# Altium footprint library thermostat.PcbLib: 97 footprints (part 6 of 7)
Each footprint in its own frame and in the unit in brackets; x right, y up, seen from the top. Pads: shape width x height; smd on the part's side, far side on the other; paste and mask are expansions set on the pad; w line width, h text height; cw(c..) or ccw(c..) is an arc to the next point about the centre after c.
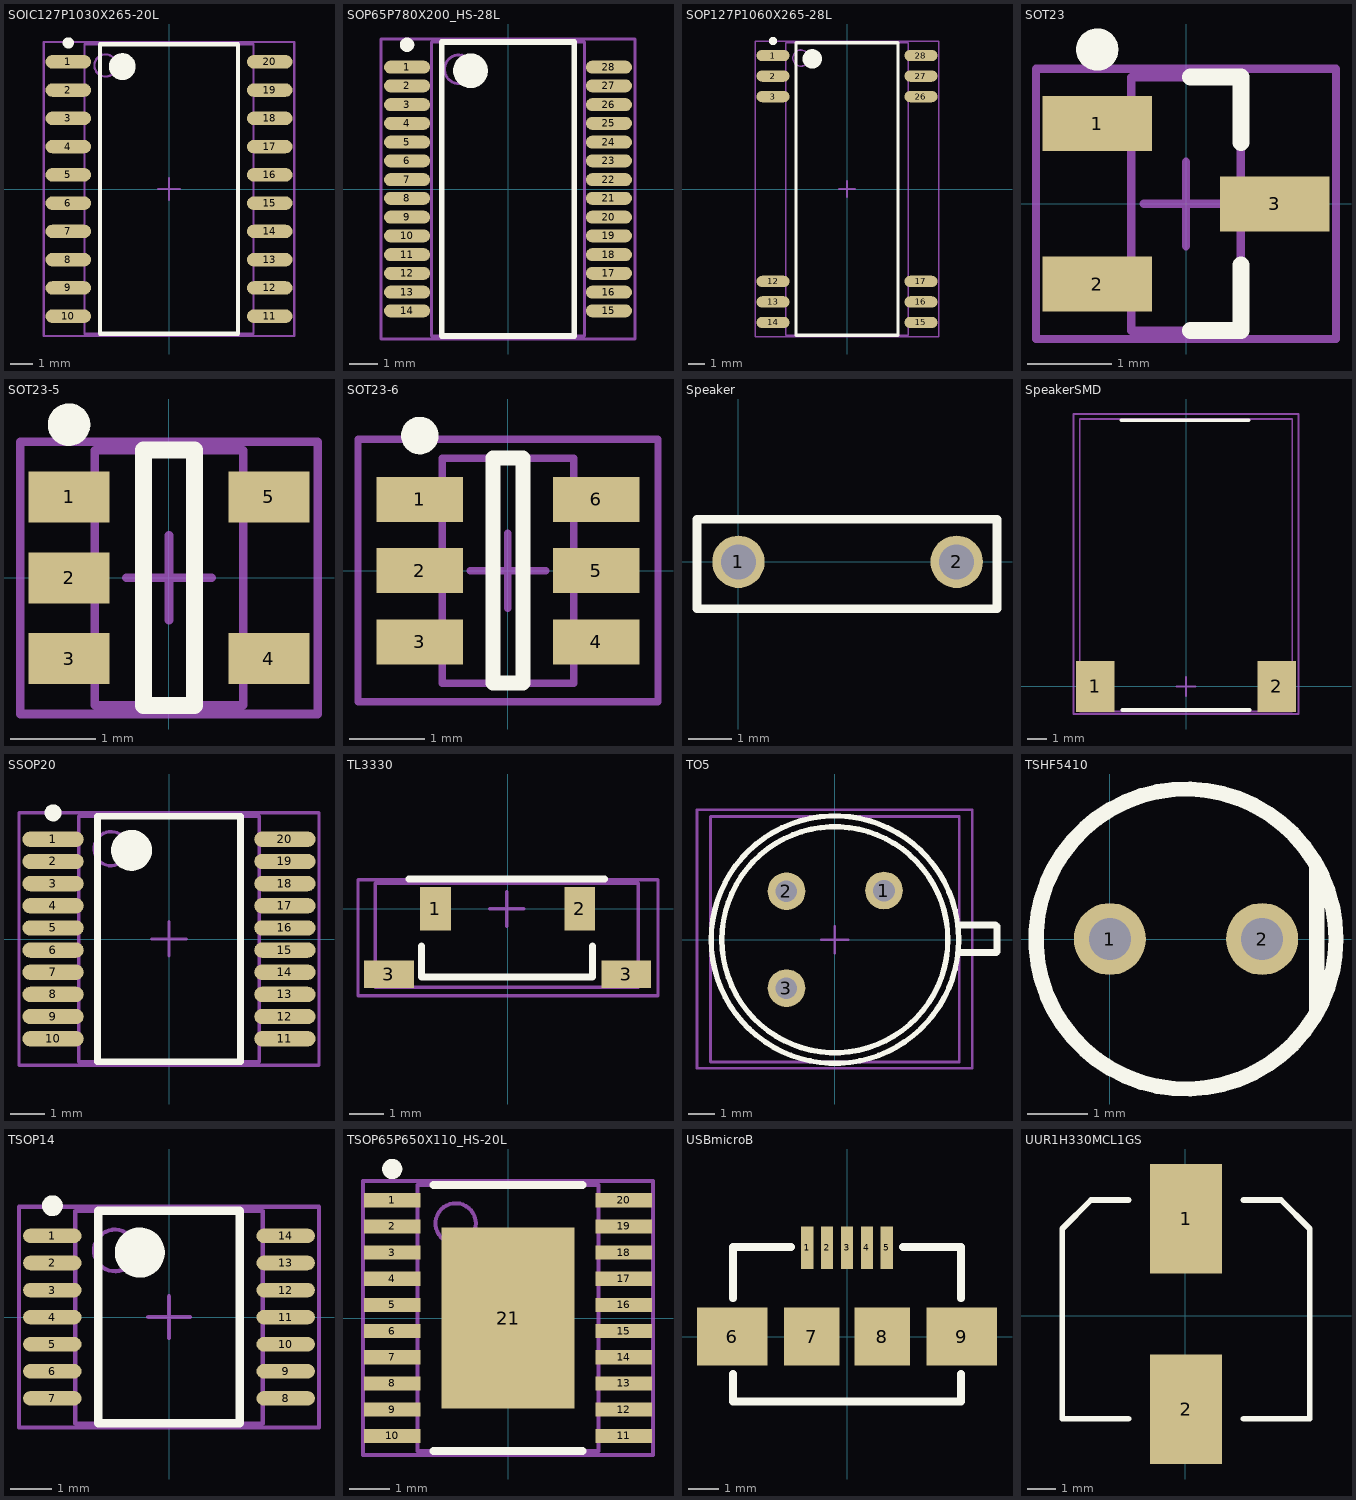
[diagram p5: the footprints below, top view; thin cyan lines are the x and y axes]

## SOIC127P1030X265-20L [mm] "SOIC, 20-Leads, Body 13,0x7,6mm (max), Pitch 1,27mm, IPC High Density"
height 2.65
pads (20):
  oval 2.05x0.6 smd: 1(-4.525,5.715) 2(-4.525,4.445) 3(-4.525,3.175) 4(-4.525,1.905) 5(-4.525,0.635) 6(-4.525,-0.635) 7(-4.525,-1.905) 8(-4.525,-3.175) 9(-4.525,-4.445) 10(-4.525,-5.715) 11(4.525,-5.715) 12(4.525,-4.445) 13(4.525,-3.175) 14(4.525,-1.905) 15(4.525,-0.635) 16(4.525,0.635) 17(4.525,1.905) 18(4.525,3.175) 19(4.525,4.445) 20(4.525,5.715)
Top Overlay:
  circle w0.25: c-4.525,6.565 r0.125
  circle w0.6: c-2.1,5.5 r0.3
  lines w0.2: -3.1,-6.5 -3.1,6.5 3.1,6.5 3.1,-6.5 -3.1,-6.5
Mechanical 13:
  circle w0.1: c-2.85,5.55 r0.5
  lines w0.1: -3.8,-6.5 -3.8,6.5 3.8,6.5 3.8,-6.5 -3.8,-6.5
Mechanical 15:
  lines w0.1: -0.5,0 0.5,0 ; 0,-0.5 0,0.5 ; -5.625,-6.6 -5.625,6.6 5.625,6.6 5.625,-6.6 -5.625,-6.6
3D body: height 2.65, standoff 0.2, extent -3.8,-6.5 3.8,6.5

## SOP65P780X200_HS-28L [mm] "SOP, 28-Leads, Body 10,2x5,3mm (max), Pitch 0,65mm, IPC High Density"
height 2
pads (28):
  oval 1.6x0.45 smd: 1(-3.5,4.225) 2(-3.5,3.575) 3(-3.5,2.925) 4(-3.5,2.275) 5(-3.5,1.625) 6(-3.5,0.975) 7(-3.5,0.325) 8(-3.5,-0.325) 9(-3.5,-0.975) 10(-3.5,-1.625) 11(-3.5,-2.275) 12(-3.5,-2.925) 13(-3.5,-3.575) 14(-3.5,-4.225) 15(3.5,-4.225) 16(3.5,-3.575) 17(3.5,-2.925) 18(3.5,-2.275) 19(3.5,-1.625) 20(3.5,-0.975) 21(3.5,-0.325) 22(3.5,0.325) 23(3.5,0.975) 24(3.5,1.625) 25(3.5,2.275) 26(3.5,2.925) 27(3.5,3.575) 28(3.5,4.225)
Top Overlay:
  circle w0.6: c-1.3,4.1 r0.3
  circle w0.25: c-3.5,5 r0.125
  lines w0.2: -2.3,-5.1 2.3,-5.1 2.3,5.1 -2.3,5.1 -2.3,-5.1
Mechanical 13:
  circle w0.1: c-1.7,4.15 r0.5
  lines w0.1: -2.65,-5.1 2.65,-5.1 2.65,5.1 -2.65,5.1 -2.65,-5.1
Mechanical 15:
  lines w0.1: -4.4,-5.2 4.4,-5.2 4.4,5.2 -4.4,5.2 -4.4,-5.2
3D body: height 2, standoff 0.2, extent -2.65,-5.1 2.65,5.1

## SOP127P1060X265-28L [mm] "SOP, 28-Leads, Body 18,1x7,6mm (max), Pitch 1,27mm, IPC High Density"
height 2.65
pads (12):
  oval 2.05x0.7 smd: 1(-4.575,8.255) 2(-4.575,6.985) 3(-4.575,5.715) 12(-4.575,-5.715) 13(-4.575,-6.985) 14(-4.575,-8.255) 15(4.575,-8.255) 16(4.575,-6.985) 17(4.575,-5.715) 26(4.575,5.715) 27(4.575,6.985) 28(4.575,8.255)
Top Overlay:
  circle w0.6: c-2.15,8.05 r0.3
  circle w0.25: c-4.575,9.155 r0.125
  lines w0.2: -3.15,-9.05 3.15,-9.05 3.15,9.05 -3.15,9.05 -3.15,-9.05
Mechanical 13:
  circle w0.1: c-2.85,8.1 r0.5
  lines w0.1: -3.8,-9.05 3.8,-9.05 3.8,9.05 -3.8,9.05 -3.8,-9.05
Mechanical 15:
  lines w0.1: -0.5,0 0.5,0 ; 0,-0.5 0,0.5 ; -5.675,-9.15 5.675,-9.15 5.675,9.15 -5.675,9.15 -5.675,-9.15
3D body: height 2.65, standoff 0.2, extent -3.8,-9.05 3.8,9.05

## SOT23 [mm]
height 1
pads (3):
  rect 1.3x0.65 smd: 1(-1.05,0.95) 2(-1.05,-0.95) 3(1.05,0)
Top Overlay:
  circle w0.25: c-1.05,1.825 r0.125
  lines w0.2: 0.05,-1.5 0.65,-1.5 0.65,-0.725 ; 0.05,1.5 0.65,1.5 0.65,0.725
Mechanical 13:
  lines w0.1: -0.65,-1.5 -0.65,1.5 0.65,1.5 0.65,-1.5 -0.65,-1.5
Mechanical 15:
  lines w0.1: -0.5,0 0.5,0 ; 0,-0.5 0,0.5 ; -1.775,-1.6 -1.775,1.6 1.775,1.6 1.775,-1.6 -1.775,-1.6
3D body: height 1, standoff 0.15, extent -0.65,-1.5 0.65,1.5

## SOT23-5 [mm] "SOT23, 5-Leads, Body 3,0x3,0mm (max), Pitch 0,95mm, IPC High Density"
height 1.45
pads (5):
  rect 0.95x0.6 smd: 1(-1.175,0.95) 2(-1.175,0) 3(-1.175,-0.95) 4(1.175,-0.95) 5(1.175,0.95)
Top Overlay:
  circle w0.25: c-1.175,1.8 r0.125
  lines w0.2: -0.3,-1.5 -0.3,1.5 0.3,1.5 0.3,-1.5 -0.3,-1.5
Mechanical 13:
  lines w0.1: -0.875,-1.5 0.875,-1.5 0.875,1.5 -0.875,1.5 -0.875,-1.5
Mechanical 15:
  lines w0.1: -0.5,0 0.5,0 ; 0,-0.5 0,0.5 ; -1.75,-1.6 1.75,-1.6 1.75,1.6 -1.75,1.6 -1.75,-1.6
3D body: height 1.45, standoff 0.15, extent -0.875,-1.5 0.875,1.5

## SOT23-6 [mm] "SOT23, 6-Leads, Body 3,0x3,0mm (max), Pitch 0,95mm, IPC Medium Density"
height 1.45
pads (6):
  rect 1.15x0.6 smd: 1(-1.175,0.95) 2(-1.175,0) 3(-1.175,-0.95) 4(1.175,-0.95) 5(1.175,0) 6(1.175,0.95)
Top Overlay:
  circle w0.25: c-1.175,1.8 r0.125
  lines w0.2: -0.2,-1.5 0.2,-1.5 0.2,1.5 -0.2,1.5 -0.2,-1.5
Mechanical 13:
  lines w0.1: -0.875,-1.5 -0.875,1.5 0.875,1.5 0.875,-1.5 -0.875,-1.5
Mechanical 15:
  lines w0.1: -0.5,0 0.5,0 ; 0,-0.5 0,0.5 ; -2,-1.75 -2,1.75 2,1.75 2,-1.75 -2,-1.75
3D body: height 1.45, standoff 0.15, extent -0.875,-1.5 0.875,1.5

## Speaker [mm]
pads (2):
  round 1.2 hole 0.8: 1(0,0) 2(5,0)
Top Overlay:
  lines w0.2: 5.925,0.95 5.925,-1.075 -0.95,-1.075 -0.95,0.975 5.925,0.975

## SpeakerSMD [mm] "Chip Resistor, 2-Leads, Body 11,0x2,6mm, IPC High Density"
height 3.5
pads (2):
  rect 2x2.65 smd: 1(-4.7,0) 2(4.7,0)
Top Overlay:
  lines w0.2: -3.35,13.775 3.25,13.775 ; -3.3,-1.225 3.3,-1.225
Mechanical 13:
  lines w0.1: -5.5,-1.3 -5.5,13.85 5.5,13.85 5.5,-1.3 -5.5,-1.3
Mechanical 15:
  lines w0.1: -0.5,0 0.5,0 ; 0,-0.5 0,0.5 ; -5.825,-1.425 -5.825,14.1 5.825,14.1 5.825,-1.425 -5.825,-1.425
3D body: height 3.5, standoff 0, extent -5.5,-1.3 5.5,13.975

## SSOP20 [mm] "SSOP20, 20-Leads, Body 7,2x5,3mm (max), Pitch 0,65mm, IPC High Density"
height 2
pads (20):
  oval 1.8x0.45 smd: 1(-3.4,2.925) 2(-3.4,2.275) 3(-3.4,1.625) 4(-3.4,0.975) 5(-3.4,0.325) 6(-3.4,-0.325) 7(-3.4,-0.975) 8(-3.4,-1.625) 9(-3.4,-2.275) 10(-3.4,-2.925) 11(3.4,-2.925) 12(3.4,-2.275) 13(3.4,-1.625) 14(3.4,-0.975) 15(3.4,-0.325) 16(3.4,0.325) 17(3.4,0.975) 18(3.4,1.625) 19(3.4,2.275) 20(3.4,2.925)
Top Overlay:
  circle w0.25: c-3.4,3.7 r0.125
  circle w0.6: c-1.1,2.6 r0.3
  lines w0.2: -2.1,-3.6 -2.1,3.6 2.1,3.6 2.1,-3.6 -2.1,-3.6
Mechanical 13:
  circle w0.1: c-1.7,2.65 r0.5
  lines w0.1: -2.65,-3.6 -2.65,3.6 2.65,3.6 2.65,-3.6 -2.65,-3.6
Mechanical 15:
  lines w0.1: -0.5,0 0.5,0 ; 0,-0.5 0,0.5 ; -4.4,-3.7 -4.4,3.7 4.4,3.7 4.4,-3.7 -4.4,-3.7
3D body: height 2, standoff 0.1, extent -2.65,-3.6 2.65,3.6

## TL3330 [mm] "SWITCH TACTILE SPST-NO 0.05A 12V"
height 3.4
pads (4):
  rect 0.9x1.27 smd: 1(-2.1,0) 2(2.1,0)
  rect 1.45x0.8 smd: 3(-3.45,-1.9) 3(3.45,-1.9)
Top Overlay:
  lines w0.2: -2.875,0.875 2.825,0.875 ; -2.5,-1.075 -2.5,-1.975 2.475,-1.975 2.475,-1.075
Mechanical 13:
  lines w0.1: -3.85,-2.275 -3.85,0.75 3.8,0.75 3.8,-2.275 -3.85,-2.275
Mechanical 15:
  lines w0.1: -0.525,0 0.475,0 ; -0.025,-0.5 -0.025,0.5 ; -4.35,-2.525 -4.35,0.85 4.375,0.85 4.375,-2.525 -4.35,-2.525
3D body: height 3.4, standoff 0, extent -3.875,-2.425 3.8,0.775

## TO5 [mm]
height 4.8
pads (3):
  round 1.4 hole 0.8: 1(1.825,1.825) 2(-1.8,1.8) 3(-1.8,-1.8)
Top Overlay:
  circle w0.2: c0,0 r4.6
  circle w0.2: c0,0 r4.2
  lines w0.254: 4.6,-0.475 6,-0.475 6.025,-0.45 6.025,0.5 5.975,0.55 4.625,0.55
Mechanical 13:
  lines w0.1: -4.625,-4.55 -4.625,4.575 4.625,4.575 4.625,-4.55 -4.625,-4.55
Mechanical 15:
  lines w0.1: -0.5,0 0.5,0 ; 0,-0.5 0,0.5 ; -5.125,-4.775 -5.125,4.825 5.1,4.825 5.1,-4.775 -5.125,-4.775
3D body: height 4.8, standoff 0, extent -4.564,-4.591 4.6,4.591

## TSHF5410 [mm] "EMITTER IR 5MM HI SPEED 890NM"
height 8.7
pads (2):
  round 1.2 hole 0.7: 1(0,0) 2(2.54,0)
Top Overlay:
  circle w0.254: c1.27,0 r2.5
  lines w0.254: 3.45,-1.175 3.45,1.2
3D body: height 8.7, standoff 0, extent -1.23,-2.495 3.75,2.495

## TSOP14 [mm] "TSOP, 14-Leads, Body 5,1x4,5mm (max), Pitch 0,65mm, IPC High Density"
height 1.2
pads (14):
  oval 1.4x0.35 smd: 1(-2.8,1.95) 2(-2.8,1.3) 3(-2.8,0.65) 4(-2.8,0) 5(-2.8,-0.65) 6(-2.8,-1.3) 7(-2.8,-1.95) 8(2.8,-1.95) 9(2.8,-1.3) 10(2.8,-0.65) 11(2.8,0) 12(2.8,0.65) 13(2.8,1.3) 14(2.8,1.95)
Top Overlay:
  circle w0.25: c-2.8,2.675 r0.125
  circle w0.6: c-0.7,1.55 r0.3
  lines w0.2: -1.7,-2.55 -1.7,2.55 1.7,2.55 1.7,-2.55 -1.7,-2.55
Mechanical 13:
  circle w0.1: c-1.3,1.6 r0.5
  lines w0.1: -2.25,-2.55 -2.25,2.55 2.25,2.55 2.25,-2.55 -2.25,-2.55
Mechanical 15:
  lines w0.1: -0.5,0 0.5,0 ; 0,-0.5 0,0.5 ; -3.6,-2.65 -3.6,2.65 3.6,2.65 3.6,-2.65 -3.6,-2.65
3D body: height 1.2, standoff 0.2, extent -2.25,-2.55 2.25,2.55

## TSOP65P650X110_HS-20L [mm] "TSOP, 20-Leads, Body 6,6x4,5mm (max), Pitch 0,65mm, IPC High Density"
height 1.1
pads (21):
  rect 1.4x0.35 smd: 1(-2.875,2.925) 2(-2.875,2.275) 3(-2.875,1.625) 4(-2.875,0.975) 5(-2.875,0.325) 6(-2.875,-0.325) 7(-2.875,-0.975) 8(-2.875,-1.625) 9(-2.875,-2.275) 10(-2.875,-2.925) 11(2.875,-2.925) 12(2.875,-2.275) 13(2.875,-1.625) 14(2.875,-0.975) 15(2.875,-0.325) 16(2.875,0.325) 17(2.875,0.975) 18(2.875,1.625) 19(2.875,2.275) 20(2.875,2.925)
  rect 3.3x4.5 smd: 21(0,0)
Top Overlay:
  circle w0.25: c-2.875,3.7 r0.125
  lines w0.2: -1.85,-3.3 1.85,-3.3 ; -1.85,3.3 1.85,3.3
Mechanical 13:
  circle w0.1: c-1.3,2.35 r0.5
  lines w0.1: -2.25,-3.3 2.25,-3.3 2.25,3.3 -2.25,3.3 -2.25,-3.3
Mechanical 15:
  lines w0.1: -0.5,0 0.5,0 ; 0,-0.5 0,0.5 ; -3.6,-3.4 3.6,-3.4 3.6,3.4 -3.6,3.4 -3.6,-3.4
3D body: height 1.1, standoff 0.2, extent -2.25,-3.3 2.25,3.3

## USBmicroB [mm] "CONN RCPT STD MICRO USB TYPE B"
height 2.95
pads (9):
  rect 0.4x1.4 smd: 1(-1.3,2.9) 2(-0.65,2.9) 3(0,2.9) 4(0.65,2.9) 5(1.3,2.9)
  rect 2.3x1.9 smd: 6(-3.75,0) 9(3.75,0)
  rect 1.8x1.9 smd: 7(-1.15,0) 8(1.15,0)
Top Overlay:
  lines w0.254: -3.725,-2.125 0,-2.125 3.725,-2.125 ; -3.725,-2.1 -3.725,-1.225 ; -3.725,1.25 -3.725,2.925 -1.825,2.925 ; 1.825,2.925 3.725,2.925 3.725,1.25 ; 3.725,-2.1 3.725,-1.225
3D body: height 2.95, standoff 0, extent -3.775,-2.075 3.65,2.875

## UUR1H330MCL1GS [mm] "CAP ALUM 33UF 50V 20% SMD"
height 6.5
pads (2):
  rect 2.5x3.8 smd: 1(0.025,3.375) 2(0.025,-3.25)
Top Overlay:
  lines w0.2: -1.98,-3.575 -4.28,-3.575 -4.28,3.025 ; -1.98,4.025 -3.28,4.025 -4.28,3.025 ; 2.02,-3.575 4.32,-3.575 4.32,3.025 ; 2.02,4.025 3.32,4.025 4.32,3.025 ; -4.28,3.025 -4.28,3.025 ; 4.32,3.025 4.32,3.025
3D body: height 10.3, standoff -0.2, extent -4.23,-4.723 4.27,4.977